# Altium footprint library Connector_JST.PcbLib: 558 footprints (part 30 of 35)
Each footprint in its own frame and in the unit in brackets; x right, y up, seen from the top. Pads: shape width x height; smd on the part's side, far side on the other; paste and mask are expansions set on the pad; w line width, h text height; cw(c..) or ccw(c..) is an arc to the next point about the centre after c.
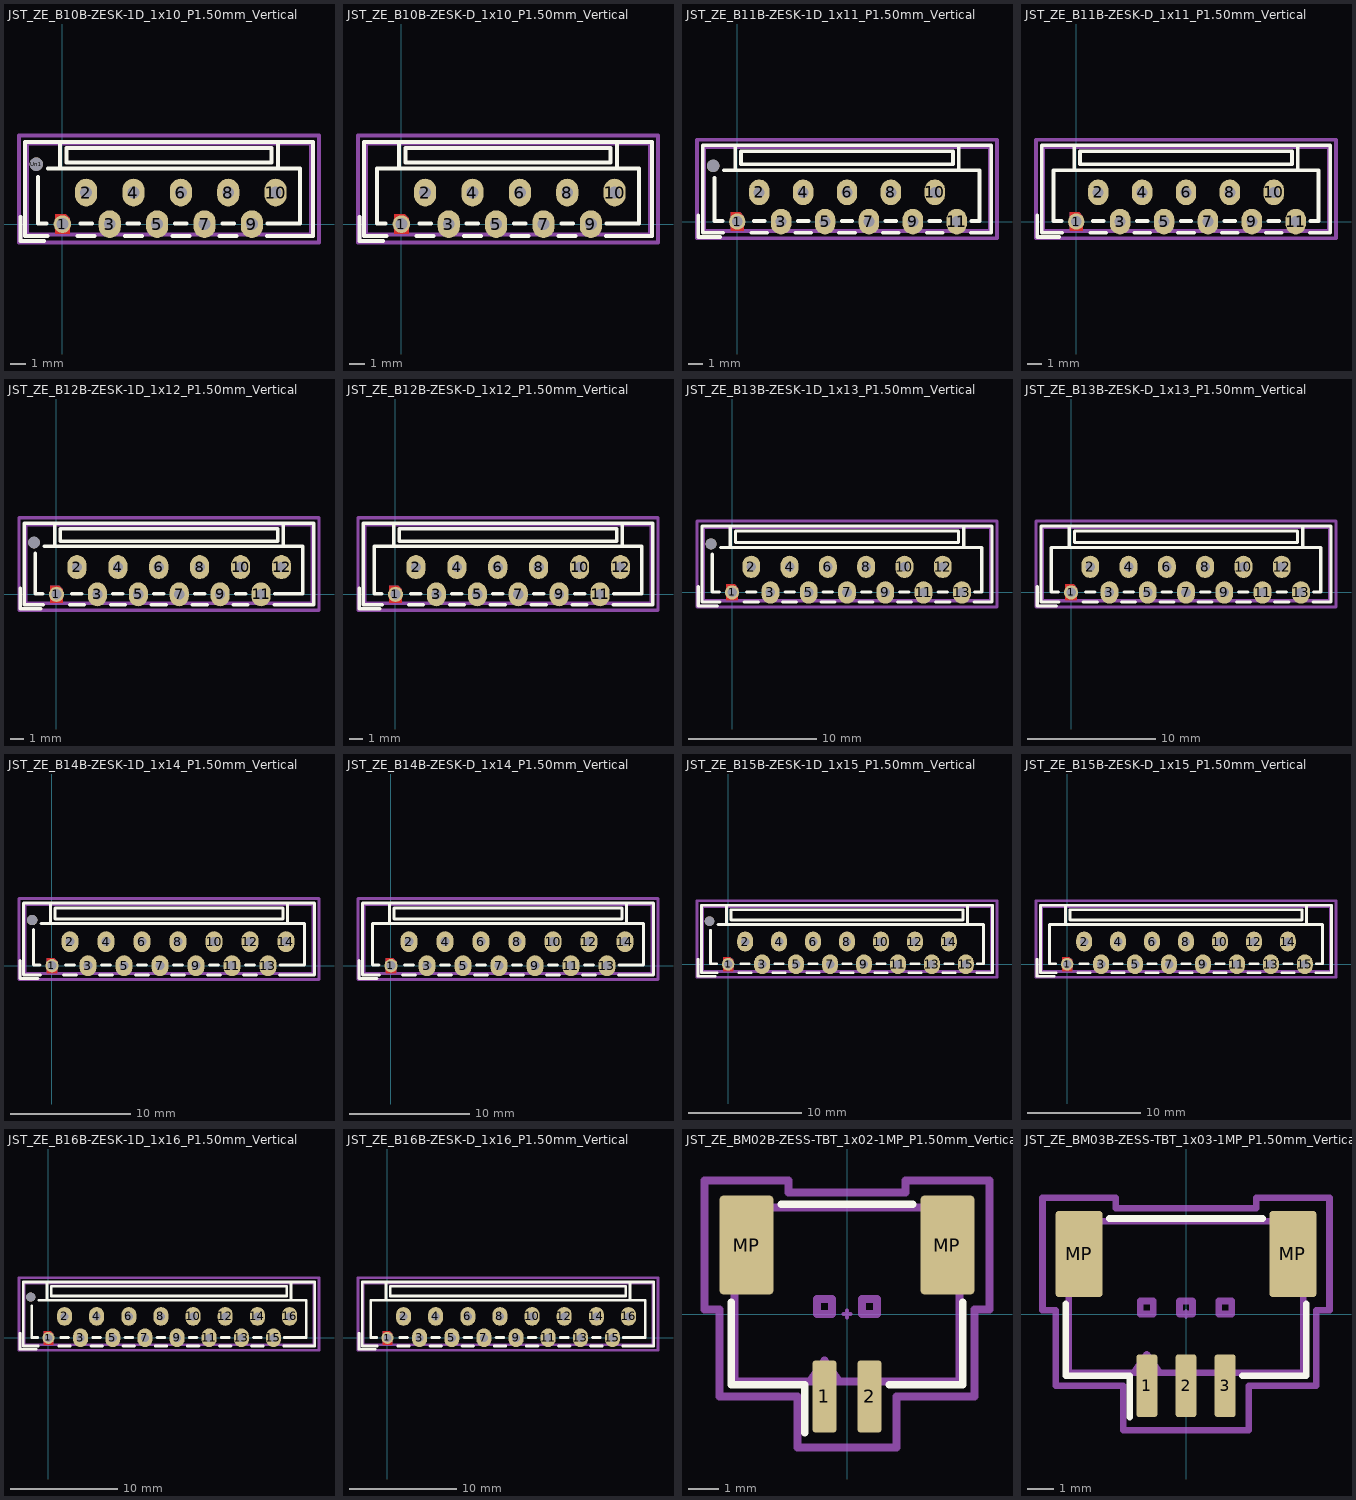
[diagram p29: the footprints below, top view; thin cyan lines are the x and y axes]

## JST_ZE_B10B-ZESK-1D_1x10_P1.50mm_Vertical [mm] "JST_ZE_B10B-ZESK-1D_1x10_P1.50mm_Vertical"
pads (11):
  round 1.117 hole 0.75: 1(0,0)
  rrect100% 1.4x1.75 hole 0.75: 2(1.5,2) 3(3,0) 4(4.5,2) 5(6,0) 6(7.5,2) 7(9,0) 8(10.5,2) 9(12,0) 10(13.5,2)
  round 0.85 hole 0.85: Un1(-1.65,3.8)
F.Cu:
  region: 0.45,0.371 0.45,-0.625 -0.45,-0.625 -0.45,0.625 0.196,0.625
B.Cu:
  region: 0.45,0.371 0.45,-0.625 -0.45,-0.625 -0.45,0.625 0.196,0.625
F.SilkS:
  lines w0.254: -2.66,0.44 -2.66,-1.06 -1.16,-1.06 ; -1.56,3 -1.56,0.04 -1,0.04 ; -0.96,-0.76 -2.36,-0.76 -2.36,5.21 15.86,5.21 15.86,-0.76 12.96,-0.76 ; -0.9,3.51 -0.14,3.51 ; 0.96,-0.76 2.04,-0.76 ; 1.135,0.04 1.865,0.04 ; 3.96,-0.76 5.04,-0.76 ; 4.135,0.04 4.865,0.04 ; 6.96,-0.76 8.04,-0.76 ; 7.135,0.04 7.865,0.04 ; 9.96,-0.76 11.04,-0.76 ; 10.135,0.04 10.865,0.04 ; 13,0.04 15.06,0.04 15.06,3.51 13.64,3.51 ; -0.14,3.51 13.64,3.51 ; -0.14,3.51 -0.14,5.21 13.64,5.21 13.64,3.51 ; 0.26,3.91 13.24,3.91 13.24,4.81 0.26,4.81 0.26,3.91
F.Mask:
  region: 0.45,0.371 0.45,-0.625 -0.45,-0.625 -0.45,0.625 0.196,0.625
B.Mask:
  region: 0.45,0.371 0.45,-0.625 -0.45,-0.625 -0.45,0.625 0.196,0.625
Top Component Center:
  lines w0.127: -0.127,0 0.127,0 ; 0,-0.127 0,0.127
Top Assembly:
  lines w0.254: -2.66,0.44 -2.66,-1.06 -1.16,-1.06 ; -2.25,-0.65 15.75,-0.65 15.75,5.1 -2.25,5.1 -2.25,-0.65
Top Courtyard:
  lines w0.254: -2.75,-1.15 16.25,-1.15 16.25,5.6 -2.75,5.6 -2.75,-1.15
Top Designator:
  text ".Designator" at 3.301,3.974 h1.52

## JST_ZE_B10B-ZESK-D_1x10_P1.50mm_Vertical [mm] "JST_ZE_B10B-ZESK-D_1x10_P1.50mm_Vertical"
pads (10):
  round 1.117 hole 0.75: 1(0,0)
  rrect100% 1.4x1.75 hole 0.75: 2(1.5,2) 3(3,0) 4(4.5,2) 5(6,0) 6(7.5,2) 7(9,0) 8(10.5,2) 9(12,0) 10(13.5,2)
F.Cu:
  region: 0.45,0.371 0.45,-0.625 -0.45,-0.625 -0.45,0.625 0.196,0.625
B.Cu:
  region: 0.45,0.371 0.45,-0.625 -0.45,-0.625 -0.45,0.625 0.196,0.625
F.SilkS:
  lines w0.254: -2.66,0.44 -2.66,-1.06 -1.16,-1.06 ; -1,0.04 -1.56,0.04 -1.56,3.51 -0.14,3.51 ; -0.96,-0.76 -2.36,-0.76 -2.36,5.21 15.86,5.21 15.86,-0.76 12.96,-0.76 ; 0.96,-0.76 2.04,-0.76 ; 1.135,0.04 1.865,0.04 ; 3.96,-0.76 5.04,-0.76 ; 4.135,0.04 4.865,0.04 ; 6.96,-0.76 8.04,-0.76 ; 7.135,0.04 7.865,0.04 ; 9.96,-0.76 11.04,-0.76 ; 10.135,0.04 10.865,0.04 ; 13,0.04 15.06,0.04 15.06,3.51 13.64,3.51 ; -0.14,3.51 13.64,3.51 ; -0.14,3.51 -0.14,5.21 13.64,5.21 13.64,3.51 ; 0.26,3.91 13.24,3.91 13.24,4.81 0.26,4.81 0.26,3.91
F.Mask:
  region: 0.45,0.371 0.45,-0.625 -0.45,-0.625 -0.45,0.625 0.196,0.625
B.Mask:
  region: 0.45,0.371 0.45,-0.625 -0.45,-0.625 -0.45,0.625 0.196,0.625
Top Component Center:
  lines w0.127: -0.127,0 0.127,0 ; 0,-0.127 0,0.127
Top Assembly:
  lines w0.254: -2.66,0.44 -2.66,-1.06 -1.16,-1.06 ; -2.25,-0.65 15.75,-0.65 15.75,5.1 -2.25,5.1 -2.25,-0.65
Top Courtyard:
  lines w0.254: -2.75,-1.15 16.25,-1.15 16.25,5.6 -2.75,5.6 -2.75,-1.15
Top Designator:
  text ".Designator" at 2.285,3.974 h1.52

## JST_ZE_B11B-ZESK-1D_1x11_P1.50mm_Vertical [mm] "JST_ZE_B11B-ZESK-1D_1x11_P1.50mm_Vertical"
pads (12):
  round 1.117 hole 0.75: 1(0,0)
  rrect100% 1.4x1.75 hole 0.75: 2(1.5,2) 3(3,0) 4(4.5,2) 5(6,0) 6(7.5,2) 7(9,0) 8(10.5,2) 9(12,0) 10(13.5,2) 11(15,0)
  round 0.85 hole 0.85: Un1(-1.65,3.8)
F.Cu:
  region: 0.45,0.371 0.45,-0.625 -0.45,-0.625 -0.45,0.625 0.196,0.625
B.Cu:
  region: 0.45,0.371 0.45,-0.625 -0.45,-0.625 -0.45,0.625 0.196,0.625
F.SilkS:
  lines w0.254: -2.66,0.44 -2.66,-1.06 -1.16,-1.06 ; -1.56,3 -1.56,0.04 -1,0.04 ; -0.96,-0.76 -2.36,-0.76 -2.36,5.21 17.36,5.21 17.36,-0.76 15.96,-0.76 ; -0.9,3.51 -0.14,3.51 ; 0.96,-0.76 2.04,-0.76 ; 1.135,0.04 1.865,0.04 ; 3.96,-0.76 5.04,-0.76 ; 4.135,0.04 4.865,0.04 ; 6.96,-0.76 8.04,-0.76 ; 7.135,0.04 7.865,0.04 ; 9.96,-0.76 11.04,-0.76 ; 10.135,0.04 10.865,0.04 ; 12.96,-0.76 14.04,-0.76 ; 13.135,0.04 13.865,0.04 ; 16,0.04 16.56,0.04 16.56,3.51 15.14,3.51 ; -0.14,3.51 -0.14,5.21 15.14,5.21 15.14,3.51 ; -0.14,3.51 15.14,3.51 ; 0.26,3.91 0.26,4.81 14.74,4.81 14.74,3.91 0.26,3.91
F.Mask:
  region: 0.45,0.371 0.45,-0.625 -0.45,-0.625 -0.45,0.625 0.196,0.625
B.Mask:
  region: 0.45,0.371 0.45,-0.625 -0.45,-0.625 -0.45,0.625 0.196,0.625
Top Component Center:
  lines w0.127: -0.127,0 0.127,0 ; 0,-0.127 0,0.127
Top Assembly:
  lines w0.254: -2.66,0.44 -2.66,-1.06 -1.16,-1.06 ; -2.25,-0.65 -2.25,5.1 17.25,5.1 17.25,-0.65 -2.25,-0.65
Top Courtyard:
  lines w0.254: -2.75,-1.15 -2.75,5.6 17.75,5.6 17.75,-1.15 -2.75,-1.15
Top Designator:
  text ".Designator" at 3.809,3.974 h1.52

## JST_ZE_B11B-ZESK-D_1x11_P1.50mm_Vertical [mm]
pads (11):
  round 1.117 hole 0.75: 1(0,0)
  rrect100% 1.4x1.75 hole 0.75: 2(1.5,2) 3(3,0) 4(4.5,2) 5(6,0) 6(7.5,2) 7(9,0) 8(10.5,2) 9(12,0) 10(13.5,2) 11(15,0)
F.Cu:
  region: 0.45,0.371 0.45,-0.625 -0.45,-0.625 -0.45,0.625 0.196,0.625
B.Cu:
  region: 0.45,0.371 0.45,-0.625 -0.45,-0.625 -0.45,0.625 0.196,0.625
F.SilkS:
  lines w0.254: -2.66,0.44 -2.66,-1.06 -1.16,-1.06 ; -1,0.04 -1.56,0.04 -1.56,3.51 -0.14,3.51 ; -0.96,-0.76 -2.36,-0.76 -2.36,5.21 17.36,5.21 17.36,-0.76 15.96,-0.76 ; 0.96,-0.76 2.04,-0.76 ; 1.135,0.04 1.865,0.04 ; 3.96,-0.76 5.04,-0.76 ; 4.135,0.04 4.865,0.04 ; 6.96,-0.76 8.04,-0.76 ; 7.135,0.04 7.865,0.04 ; 9.96,-0.76 11.04,-0.76 ; 10.135,0.04 10.865,0.04 ; 12.96,-0.76 14.04,-0.76 ; 13.135,0.04 13.865,0.04 ; 16,0.04 16.56,0.04 16.56,3.51 15.14,3.51 ; -0.14,3.51 -0.14,5.21 15.14,5.21 15.14,3.51 ; -0.14,3.51 15.14,3.51 ; 0.26,3.91 0.26,4.81 14.74,4.81 14.74,3.91 0.26,3.91
F.Mask:
  region: 0.45,0.371 0.45,-0.625 -0.45,-0.625 -0.45,0.625 0.196,0.625
B.Mask:
  region: 0.45,0.371 0.45,-0.625 -0.45,-0.625 -0.45,0.625 0.196,0.625
Top Component Center:
  lines w0.127: -0.127,0 0.127,0 ; 0,-0.127 0,0.127
Top Assembly:
  lines w0.254: -2.66,0.44 -2.66,-1.06 -1.16,-1.06 ; -2.25,-0.65 -2.25,5.1 17.25,5.1 17.25,-0.65 -2.25,-0.65
Top Courtyard:
  lines w0.254: -2.75,-1.15 -2.75,5.6 17.75,5.6 17.75,-1.15 -2.75,-1.15
Top Designator:
  text ".Designator" at 4.063,3.974 h1.52

## JST_ZE_B12B-ZESK-1D_1x12_P1.50mm_Vertical [mm] "JST_ZE_B12B-ZESK-1D_1x12_P1.50mm_Vertical"
pads (13):
  round 1.117 hole 0.75: 1(0,0)
  rrect100% 1.4x1.75 hole 0.75: 2(1.5,2) 3(3,0) 4(4.5,2) 5(6,0) 6(7.5,2) 7(9,0) 8(10.5,2) 9(12,0) 10(13.5,2) 11(15,0) 12(16.5,2)
  round 0.85 hole 0.85: Un1(-1.65,3.8)
F.Cu:
  region: 0.45,0.371 0.45,-0.625 -0.45,-0.625 -0.45,0.625 0.196,0.625
B.Cu:
  region: 0.45,0.371 0.45,-0.625 -0.45,-0.625 -0.45,0.625 0.196,0.625
F.SilkS:
  lines w0.254: -2.66,0.44 -2.66,-1.06 -1.16,-1.06 ; -1.56,3 -1.56,0.04 -1,0.04 ; -0.96,-0.76 -2.36,-0.76 -2.36,5.21 18.86,5.21 18.86,-0.76 15.96,-0.76 ; -0.9,3.51 -0.14,3.51 ; 0.96,-0.76 2.04,-0.76 ; 1.135,0.04 1.865,0.04 ; 3.96,-0.76 5.04,-0.76 ; 4.135,0.04 4.865,0.04 ; 6.96,-0.76 8.04,-0.76 ; 7.135,0.04 7.865,0.04 ; 9.96,-0.76 11.04,-0.76 ; 10.135,0.04 10.865,0.04 ; 12.96,-0.76 14.04,-0.76 ; 13.135,0.04 13.865,0.04 ; 16,0.04 18.06,0.04 18.06,3.51 16.64,3.51 ; -0.14,3.51 16.64,3.51 ; -0.14,3.51 -0.14,5.21 16.64,5.21 16.64,3.51 ; 0.26,3.91 16.24,3.91 16.24,4.81 0.26,4.81 0.26,3.91
F.Mask:
  region: 0.45,0.371 0.45,-0.625 -0.45,-0.625 -0.45,0.625 0.196,0.625
B.Mask:
  region: 0.45,0.371 0.45,-0.625 -0.45,-0.625 -0.45,0.625 0.196,0.625
Top Component Center:
  lines w0.127: -0.127,0 0.127,0 ; 0,-0.127 0,0.127
Top Assembly:
  lines w0.254: -2.66,0.44 -2.66,-1.06 -1.16,-1.06 ; -2.25,-0.65 18.75,-0.65 18.75,5.1 -2.25,5.1 -2.25,-0.65
Top Courtyard:
  lines w0.254: -2.75,-1.15 19.25,-1.15 19.25,5.6 -2.75,5.6 -2.75,-1.15
Top Designator:
  text ".Designator" at 4.698,3.974 h1.52

## JST_ZE_B12B-ZESK-D_1x12_P1.50mm_Vertical [mm] "JST_ZE_B12B-ZESK-D_1x12_P1.50mm_Vertical"
pads (12):
  round 1.117 hole 0.75: 1(0,0)
  rrect100% 1.4x1.75 hole 0.75: 2(1.5,2) 3(3,0) 4(4.5,2) 5(6,0) 6(7.5,2) 7(9,0) 8(10.5,2) 9(12,0) 10(13.5,2) 11(15,0) 12(16.5,2)
F.Cu:
  region: 0.45,0.371 0.45,-0.625 -0.45,-0.625 -0.45,0.625 0.196,0.625
B.Cu:
  region: 0.45,0.371 0.45,-0.625 -0.45,-0.625 -0.45,0.625 0.196,0.625
F.SilkS:
  lines w0.254: -2.66,0.44 -2.66,-1.06 -1.16,-1.06 ; -1,0.04 -1.56,0.04 -1.56,3.51 -0.14,3.51 ; -0.96,-0.76 -2.36,-0.76 -2.36,5.21 18.86,5.21 18.86,-0.76 15.96,-0.76 ; 0.96,-0.76 2.04,-0.76 ; 1.135,0.04 1.865,0.04 ; 3.96,-0.76 5.04,-0.76 ; 4.135,0.04 4.865,0.04 ; 6.96,-0.76 8.04,-0.76 ; 7.135,0.04 7.865,0.04 ; 9.96,-0.76 11.04,-0.76 ; 10.135,0.04 10.865,0.04 ; 12.96,-0.76 14.04,-0.76 ; 13.135,0.04 13.865,0.04 ; 16,0.04 18.06,0.04 18.06,3.51 16.64,3.51 ; -0.14,3.51 16.64,3.51 ; -0.14,3.51 -0.14,5.21 16.64,5.21 16.64,3.51 ; 0.26,3.91 16.24,3.91 16.24,4.81 0.26,4.81 0.26,3.91
F.Mask:
  region: 0.45,0.371 0.45,-0.625 -0.45,-0.625 -0.45,0.625 0.196,0.625
B.Mask:
  region: 0.45,0.371 0.45,-0.625 -0.45,-0.625 -0.45,0.625 0.196,0.625
Top Component Center:
  lines w0.127: -0.127,0 0.127,0 ; 0,-0.127 0,0.127
Top Assembly:
  lines w0.254: -2.66,0.44 -2.66,-1.06 -1.16,-1.06 ; -2.25,-0.65 18.75,-0.65 18.75,5.1 -2.25,5.1 -2.25,-0.65
Top Courtyard:
  lines w0.254: -2.75,-1.15 19.25,-1.15 19.25,5.6 -2.75,5.6 -2.75,-1.15
Top Designator:
  text ".Designator" at 4.825,3.974 h1.52

## JST_ZE_B13B-ZESK-1D_1x13_P1.50mm_Vertical [mm] "JST_ZE_B13B-ZESK-1D_1x13_P1.50mm_Vertical"
pads (14):
  round 1.117 hole 0.75: 1(0,0)
  rrect100% 1.4x1.75 hole 0.75: 2(1.5,2) 3(3,0) 4(4.5,2) 5(6,0) 6(7.5,2) 7(9,0) 8(10.5,2) 9(12,0) 10(13.5,2) 11(15,0) 12(16.5,2) 13(18,0)
  round 0.85 hole 0.85: Un1(-1.65,3.8)
F.Cu:
  region: 0.45,0.371 0.45,-0.625 -0.45,-0.625 -0.45,0.625 0.196,0.625
B.Cu:
  region: 0.45,0.371 0.45,-0.625 -0.45,-0.625 -0.45,0.625 0.196,0.625
F.SilkS:
  lines w0.254: -2.66,0.44 -2.66,-1.06 -1.16,-1.06 ; -1.56,3 -1.56,0.04 -1,0.04 ; -0.96,-0.76 -2.36,-0.76 -2.36,5.21 20.36,5.21 20.36,-0.76 18.96,-0.76 ; -0.9,3.51 -0.14,3.51 ; 0.96,-0.76 2.04,-0.76 ; 1.135,0.04 1.865,0.04 ; 3.96,-0.76 5.04,-0.76 ; 4.135,0.04 4.865,0.04 ; 6.96,-0.76 8.04,-0.76 ; 7.135,0.04 7.865,0.04 ; 9.96,-0.76 11.04,-0.76 ; 10.135,0.04 10.865,0.04 ; 12.96,-0.76 14.04,-0.76 ; 13.135,0.04 13.865,0.04 ; 15.96,-0.76 17.04,-0.76 ; 16.135,0.04 16.865,0.04 ; 19,0.04 19.56,0.04 19.56,3.51 18.14,3.51 ; -0.14,3.51 18.14,3.51 ; -0.14,3.51 -0.14,5.21 18.14,5.21 18.14,3.51 ; 0.26,3.91 17.74,3.91 17.74,4.81 0.26,4.81 0.26,3.91
F.Mask:
  region: 0.45,0.371 0.45,-0.625 -0.45,-0.625 -0.45,0.625 0.196,0.625
B.Mask:
  region: 0.45,0.371 0.45,-0.625 -0.45,-0.625 -0.45,0.625 0.196,0.625
Top Component Center:
  lines w0.127: -0.127,0 0.127,0 ; 0,-0.127 0,0.127
Top Assembly:
  lines w0.254: -2.66,0.44 -2.66,-1.06 -1.16,-1.06 ; -2.25,-0.65 20.25,-0.65 20.25,5.1 -2.25,5.1 -2.25,-0.65
Top Courtyard:
  lines w0.254: -2.75,-1.15 20.75,-1.15 20.75,5.6 -2.75,5.6 -2.75,-1.15
Top Designator:
  text ".Designator" at 5.46,3.974 h1.52

## JST_ZE_B13B-ZESK-D_1x13_P1.50mm_Vertical [mm] "JST_ZE_B13B-ZESK-D_1x13_P1.50mm_Vertical"
pads (13):
  round 1.117 hole 0.75: 1(0,0)
  rrect100% 1.4x1.75 hole 0.75: 2(1.5,2) 3(3,0) 4(4.5,2) 5(6,0) 6(7.5,2) 7(9,0) 8(10.5,2) 9(12,0) 10(13.5,2) 11(15,0) 12(16.5,2) 13(18,0)
F.Cu:
  region: 0.45,0.371 0.45,-0.625 -0.45,-0.625 -0.45,0.625 0.196,0.625
B.Cu:
  region: 0.45,0.371 0.45,-0.625 -0.45,-0.625 -0.45,0.625 0.196,0.625
F.SilkS:
  lines w0.254: -2.66,0.44 -2.66,-1.06 -1.16,-1.06 ; -1,0.04 -1.56,0.04 -1.56,3.51 -0.14,3.51 ; -0.96,-0.76 -2.36,-0.76 -2.36,5.21 20.36,5.21 20.36,-0.76 18.96,-0.76 ; 0.96,-0.76 2.04,-0.76 ; 1.135,0.04 1.865,0.04 ; 3.96,-0.76 5.04,-0.76 ; 4.135,0.04 4.865,0.04 ; 6.96,-0.76 8.04,-0.76 ; 7.135,0.04 7.865,0.04 ; 9.96,-0.76 11.04,-0.76 ; 10.135,0.04 10.865,0.04 ; 12.96,-0.76 14.04,-0.76 ; 13.135,0.04 13.865,0.04 ; 15.96,-0.76 17.04,-0.76 ; 16.135,0.04 16.865,0.04 ; 19,0.04 19.56,0.04 19.56,3.51 18.14,3.51 ; -0.14,3.51 18.14,3.51 ; -0.14,3.51 -0.14,5.21 18.14,5.21 18.14,3.51 ; 0.26,3.91 17.74,3.91 17.74,4.81 0.26,4.81 0.26,3.91
F.Mask:
  region: 0.45,0.371 0.45,-0.625 -0.45,-0.625 -0.45,0.625 0.196,0.625
B.Mask:
  region: 0.45,0.371 0.45,-0.625 -0.45,-0.625 -0.45,0.625 0.196,0.625
Top Component Center:
  lines w0.127: -0.127,0 0.127,0 ; 0,-0.127 0,0.127
Top Assembly:
  lines w0.254: -2.66,0.44 -2.66,-1.06 -1.16,-1.06 ; -2.25,-0.65 20.25,-0.65 20.25,5.1 -2.25,5.1 -2.25,-0.65
Top Courtyard:
  lines w0.254: -2.75,-1.15 20.75,-1.15 20.75,5.6 -2.75,5.6 -2.75,-1.15
Top Designator:
  text ".Designator" at 5.46,3.974 h1.52

## JST_ZE_B14B-ZESK-1D_1x14_P1.50mm_Vertical [mm] "JST_ZE_B14B-ZESK-1D_1x14_P1.50mm_Vertical"
pads (15):
  round 1.117 hole 0.75: 1(0,0)
  rrect100% 1.4x1.75 hole 0.75: 2(1.5,2) 3(3,0) 4(4.5,2) 5(6,0) 6(7.5,2) 7(9,0) 8(10.5,2) 9(12,0) 10(13.5,2) 11(15,0) 12(16.5,2) 13(18,0) 14(19.5,2)
  round 0.85 hole 0.85: Un1(-1.65,3.8)
F.Cu:
  region: 0.45,0.371 0.45,-0.625 -0.45,-0.625 -0.45,0.625 0.196,0.625
B.Cu:
  region: 0.45,0.371 0.45,-0.625 -0.45,-0.625 -0.45,0.625 0.196,0.625
F.SilkS:
  lines w0.254: -2.66,0.44 -2.66,-1.06 -1.16,-1.06 ; -1.56,3 -1.56,0.04 -1,0.04 ; -0.96,-0.76 -2.36,-0.76 -2.36,5.21 21.86,5.21 21.86,-0.76 18.96,-0.76 ; -0.9,3.51 -0.14,3.51 ; 0.96,-0.76 2.04,-0.76 ; 1.135,0.04 1.865,0.04 ; 3.96,-0.76 5.04,-0.76 ; 4.135,0.04 4.865,0.04 ; 6.96,-0.76 8.04,-0.76 ; 7.135,0.04 7.865,0.04 ; 9.96,-0.76 11.04,-0.76 ; 10.135,0.04 10.865,0.04 ; 12.96,-0.76 14.04,-0.76 ; 13.135,0.04 13.865,0.04 ; 15.96,-0.76 17.04,-0.76 ; 16.135,0.04 16.865,0.04 ; 19,0.04 21.06,0.04 21.06,3.51 19.64,3.51 ; -0.14,3.51 -0.14,5.21 19.64,5.21 19.64,3.51 ; -0.14,3.51 19.64,3.51 ; 0.26,3.91 0.26,4.81 19.24,4.81 19.24,3.91 0.26,3.91
F.Mask:
  region: 0.45,0.371 0.45,-0.625 -0.45,-0.625 -0.45,0.625 0.196,0.625
B.Mask:
  region: 0.45,0.371 0.45,-0.625 -0.45,-0.625 -0.45,0.625 0.196,0.625
Top Component Center:
  lines w0.127: -0.127,0 0.127,0 ; 0,-0.127 0,0.127
Top Assembly:
  lines w0.254: -2.66,0.44 -2.66,-1.06 -1.16,-1.06 ; -2.25,-0.65 -2.25,5.1 21.75,5.1 21.75,-0.65 -2.25,-0.65
Top Courtyard:
  lines w0.254: -2.75,-1.15 -2.75,5.6 22.25,5.6 22.25,-1.15 -2.75,-1.15
Top Designator:
  text ".Designator" at 6.222,3.974 h1.52

## JST_ZE_B14B-ZESK-D_1x14_P1.50mm_Vertical [mm] "JST_ZE_B14B-ZESK-D_1x14_P1.50mm_Vertical"
pads (14):
  round 1.117 hole 0.75: 1(0,0)
  rrect100% 1.4x1.75 hole 0.75: 2(1.5,2) 3(3,0) 4(4.5,2) 5(6,0) 6(7.5,2) 7(9,0) 8(10.5,2) 9(12,0) 10(13.5,2) 11(15,0) 12(16.5,2) 13(18,0) 14(19.5,2)
F.Cu:
  region: 0.45,0.371 0.45,-0.625 -0.45,-0.625 -0.45,0.625 0.196,0.625
B.Cu:
  region: 0.45,0.371 0.45,-0.625 -0.45,-0.625 -0.45,0.625 0.196,0.625
F.SilkS:
  lines w0.254: -2.66,0.44 -2.66,-1.06 -1.16,-1.06 ; -1,0.04 -1.56,0.04 -1.56,3.51 -0.14,3.51 ; -0.96,-0.76 -2.36,-0.76 -2.36,5.21 21.86,5.21 21.86,-0.76 18.96,-0.76 ; 0.96,-0.76 2.04,-0.76 ; 1.135,0.04 1.865,0.04 ; 3.96,-0.76 5.04,-0.76 ; 4.135,0.04 4.865,0.04 ; 6.96,-0.76 8.04,-0.76 ; 7.135,0.04 7.865,0.04 ; 9.96,-0.76 11.04,-0.76 ; 10.135,0.04 10.865,0.04 ; 12.96,-0.76 14.04,-0.76 ; 13.135,0.04 13.865,0.04 ; 15.96,-0.76 17.04,-0.76 ; 16.135,0.04 16.865,0.04 ; 19,0.04 21.06,0.04 21.06,3.51 19.64,3.51 ; -0.14,3.51 -0.14,5.21 19.64,5.21 19.64,3.51 ; -0.14,3.51 19.64,3.51 ; 0.26,3.91 0.26,4.81 19.24,4.81 19.24,3.91 0.26,3.91
F.Mask:
  region: 0.45,0.371 0.45,-0.625 -0.45,-0.625 -0.45,0.625 0.196,0.625
B.Mask:
  region: 0.45,0.371 0.45,-0.625 -0.45,-0.625 -0.45,0.625 0.196,0.625
Top Component Center:
  lines w0.127: -0.127,0 0.127,0 ; 0,-0.127 0,0.127
Top Assembly:
  lines w0.254: -2.66,0.44 -2.66,-1.06 -1.16,-1.06 ; -2.25,-0.65 -2.25,5.1 21.75,5.1 21.75,-0.65 -2.25,-0.65
Top Courtyard:
  lines w0.254: -2.75,-1.15 -2.75,5.6 22.25,5.6 22.25,-1.15 -2.75,-1.15
Top Designator:
  text ".Designator" at 5.46,3.974 h1.52

## JST_ZE_B15B-ZESK-1D_1x15_P1.50mm_Vertical [mm] "JST_ZE_B15B-ZESK-1D_1x15_P1.50mm_Vertical"
pads (16):
  round 1.117 hole 0.75: 1(0,0)
  rrect100% 1.4x1.75 hole 0.75: 2(1.5,2) 3(3,0) 4(4.5,2) 5(6,0) 6(7.5,2) 7(9,0) 8(10.5,2) 9(12,0) 10(13.5,2) 11(15,0) 12(16.5,2) 13(18,0) 14(19.5,2) 15(21,0)
  round 0.85 hole 0.85: Un1(-1.65,3.8)
F.Cu:
  region: 0.45,0.371 0.45,-0.625 -0.45,-0.625 -0.45,0.625 0.196,0.625
B.Cu:
  region: 0.45,0.371 0.45,-0.625 -0.45,-0.625 -0.45,0.625 0.196,0.625
F.SilkS:
  lines w0.254: -2.66,0.44 -2.66,-1.06 -1.16,-1.06 ; -1.56,3 -1.56,0.04 -1,0.04 ; -0.96,-0.76 -2.36,-0.76 -2.36,5.21 23.36,5.21 23.36,-0.76 21.96,-0.76 ; -0.9,3.51 -0.14,3.51 ; 0.96,-0.76 2.04,-0.76 ; 1.135,0.04 1.865,0.04 ; 3.96,-0.76 5.04,-0.76 ; 4.135,0.04 4.865,0.04 ; 6.96,-0.76 8.04,-0.76 ; 7.135,0.04 7.865,0.04 ; 9.96,-0.76 11.04,-0.76 ; 10.135,0.04 10.865,0.04 ; 12.96,-0.76 14.04,-0.76 ; 13.135,0.04 13.865,0.04 ; 15.96,-0.76 17.04,-0.76 ; 16.135,0.04 16.865,0.04 ; 18.96,-0.76 20.04,-0.76 ; 19.135,0.04 19.865,0.04 ; 22,0.04 22.56,0.04 22.56,3.51 21.14,3.51 ; -0.14,3.51 -0.14,5.21 21.14,5.21 21.14,3.51 ; -0.14,3.51 21.14,3.51 ; 0.26,3.91 0.26,4.81 20.74,4.81 20.74,3.91 0.26,3.91
F.Mask:
  region: 0.45,0.371 0.45,-0.625 -0.45,-0.625 -0.45,0.625 0.196,0.625
B.Mask:
  region: 0.45,0.371 0.45,-0.625 -0.45,-0.625 -0.45,0.625 0.196,0.625
Top Component Center:
  lines w0.127: -0.127,0 0.127,0 ; 0,-0.127 0,0.127
Top Assembly:
  lines w0.254: -2.66,0.44 -2.66,-1.06 -1.16,-1.06 ; -2.25,-0.65 -2.25,5.1 23.25,5.1 23.25,-0.65 -2.25,-0.65
Top Courtyard:
  lines w0.254: -2.75,-1.15 -2.75,5.6 23.75,5.6 23.75,-1.15 -2.75,-1.15
Top Designator:
  text ".Designator" at 7.365,3.974 h1.52

## JST_ZE_B15B-ZESK-D_1x15_P1.50mm_Vertical [mm] "JST_ZE_B15B-ZESK-D_1x15_P1.50mm_Vertical"
pads (15):
  round 1.117 hole 0.75: 1(0,0)
  rrect100% 1.4x1.75 hole 0.75: 2(1.5,2) 3(3,0) 4(4.5,2) 5(6,0) 6(7.5,2) 7(9,0) 8(10.5,2) 9(12,0) 10(13.5,2) 11(15,0) 12(16.5,2) 13(18,0) 14(19.5,2) 15(21,0)
F.Cu:
  region: 0.45,0.371 0.45,-0.625 -0.45,-0.625 -0.45,0.625 0.196,0.625
B.Cu:
  region: 0.45,0.371 0.45,-0.625 -0.45,-0.625 -0.45,0.625 0.196,0.625
F.SilkS:
  lines w0.254: -2.66,0.44 -2.66,-1.06 -1.16,-1.06 ; -1,0.04 -1.56,0.04 -1.56,3.51 -0.14,3.51 ; -0.96,-0.76 -2.36,-0.76 -2.36,5.21 23.36,5.21 23.36,-0.76 21.96,-0.76 ; 0.96,-0.76 2.04,-0.76 ; 1.135,0.04 1.865,0.04 ; 3.96,-0.76 5.04,-0.76 ; 4.135,0.04 4.865,0.04 ; 6.96,-0.76 8.04,-0.76 ; 7.135,0.04 7.865,0.04 ; 9.96,-0.76 11.04,-0.76 ; 10.135,0.04 10.865,0.04 ; 12.96,-0.76 14.04,-0.76 ; 13.135,0.04 13.865,0.04 ; 15.96,-0.76 17.04,-0.76 ; 16.135,0.04 16.865,0.04 ; 18.96,-0.76 20.04,-0.76 ; 19.135,0.04 19.865,0.04 ; 22,0.04 22.56,0.04 22.56,3.51 21.14,3.51 ; -0.14,3.51 -0.14,5.21 21.14,5.21 21.14,3.51 ; -0.14,3.51 21.14,3.51 ; 0.26,3.91 0.26,4.81 20.74,4.81 20.74,3.91 0.26,3.91
F.Mask:
  region: 0.45,0.371 0.45,-0.625 -0.45,-0.625 -0.45,0.625 0.196,0.625
B.Mask:
  region: 0.45,0.371 0.45,-0.625 -0.45,-0.625 -0.45,0.625 0.196,0.625
Top Component Center:
  lines w0.127: -0.127,0 0.127,0 ; 0,-0.127 0,0.127
Top Assembly:
  lines w0.254: -2.66,0.44 -2.66,-1.06 -1.16,-1.06 ; -2.25,-0.65 -2.25,5.1 23.25,5.1 23.25,-0.65 -2.25,-0.65
Top Courtyard:
  lines w0.254: -2.75,-1.15 -2.75,5.6 23.75,5.6 23.75,-1.15 -2.75,-1.15
Top Designator:
  text ".Designator" at 6.222,3.974 h1.52

## JST_ZE_B16B-ZESK-1D_1x16_P1.50mm_Vertical [mm] "JST_ZE_B16B-ZESK-1D_1x16_P1.50mm_Vertical"
pads (17):
  round 1.117 hole 0.75: 1(0,0)
  rrect100% 1.4x1.75 hole 0.75: 2(1.5,2) 3(3,0) 4(4.5,2) 5(6,0) 6(7.5,2) 7(9,0) 8(10.5,2) 9(12,0) 10(13.5,2) 11(15,0) 12(16.5,2) 13(18,0) 14(19.5,2) 15(21,0) 16(22.5,2)
  round 0.85 hole 0.85: Un1(-1.65,3.8)
F.Cu:
  region: 0.45,0.371 0.45,-0.625 -0.45,-0.625 -0.45,0.625 0.196,0.625
B.Cu:
  region: 0.45,0.371 0.45,-0.625 -0.45,-0.625 -0.45,0.625 0.196,0.625
F.SilkS:
  lines w0.254: -2.66,0.44 -2.66,-1.06 -1.16,-1.06 ; -1.56,3 -1.56,0.04 -1,0.04 ; -0.96,-0.76 -2.36,-0.76 -2.36,5.21 24.86,5.21 24.86,-0.76 21.96,-0.76 ; -0.9,3.51 -0.14,3.51 ; 0.96,-0.76 2.04,-0.76 ; 1.135,0.04 1.865,0.04 ; 3.96,-0.76 5.04,-0.76 ; 4.135,0.04 4.865,0.04 ; 6.96,-0.76 8.04,-0.76 ; 7.135,0.04 7.865,0.04 ; 9.96,-0.76 11.04,-0.76 ; 10.135,0.04 10.865,0.04 ; 12.96,-0.76 14.04,-0.76 ; 13.135,0.04 13.865,0.04 ; 15.96,-0.76 17.04,-0.76 ; 16.135,0.04 16.865,0.04 ; 18.96,-0.76 20.04,-0.76 ; 19.135,0.04 19.865,0.04 ; 22,0.04 24.06,0.04 24.06,3.51 22.64,3.51 ; -0.14,3.51 -0.14,5.21 22.64,5.21 22.64,3.51 ; -0.14,3.51 22.64,3.51 ; 0.26,3.91 0.26,4.81 22.24,4.81 22.24,3.91 0.26,3.91
F.Mask:
  region: 0.45,0.371 0.45,-0.625 -0.45,-0.625 -0.45,0.625 0.196,0.625
B.Mask:
  region: 0.45,0.371 0.45,-0.625 -0.45,-0.625 -0.45,0.625 0.196,0.625
Top Component Center:
  lines w0.127: -0.127,0 0.127,0 ; 0,-0.127 0,0.127
Top Assembly:
  lines w0.254: -2.66,0.44 -2.66,-1.06 -1.16,-1.06 ; -2.25,-0.65 -2.25,5.1 24.75,5.1 24.75,-0.65 -2.25,-0.65
Top Courtyard:
  lines w0.254: -2.75,-1.15 -2.75,5.6 25.25,5.6 25.25,-1.15 -2.75,-1.15
Top Designator:
  text ".Designator" at 7.873,3.847 h1.52

## JST_ZE_B16B-ZESK-D_1x16_P1.50mm_Vertical [mm] "JST_ZE_B16B-ZESK-D_1x16_P1.50mm_Vertical"
pads (16):
  round 1.117 hole 0.75: 1(0,0)
  rrect100% 1.4x1.75 hole 0.75: 2(1.5,2) 3(3,0) 4(4.5,2) 5(6,0) 6(7.5,2) 7(9,0) 8(10.5,2) 9(12,0) 10(13.5,2) 11(15,0) 12(16.5,2) 13(18,0) 14(19.5,2) 15(21,0) 16(22.5,2)
F.Cu:
  region: 0.45,0.371 0.45,-0.625 -0.45,-0.625 -0.45,0.625 0.196,0.625
B.Cu:
  region: 0.45,0.371 0.45,-0.625 -0.45,-0.625 -0.45,0.625 0.196,0.625
F.SilkS:
  lines w0.254: -2.66,0.44 -2.66,-1.06 -1.16,-1.06 ; -1,0.04 -1.56,0.04 -1.56,3.51 -0.14,3.51 ; -0.96,-0.76 -2.36,-0.76 -2.36,5.21 24.86,5.21 24.86,-0.76 21.96,-0.76 ; 0.96,-0.76 2.04,-0.76 ; 1.135,0.04 1.865,0.04 ; 3.96,-0.76 5.04,-0.76 ; 4.135,0.04 4.865,0.04 ; 6.96,-0.76 8.04,-0.76 ; 7.135,0.04 7.865,0.04 ; 9.96,-0.76 11.04,-0.76 ; 10.135,0.04 10.865,0.04 ; 12.96,-0.76 14.04,-0.76 ; 13.135,0.04 13.865,0.04 ; 15.96,-0.76 17.04,-0.76 ; 16.135,0.04 16.865,0.04 ; 18.96,-0.76 20.04,-0.76 ; 19.135,0.04 19.865,0.04 ; 22,0.04 24.06,0.04 24.06,3.51 22.64,3.51 ; -0.14,3.51 22.64,3.51 ; -0.14,3.51 -0.14,5.21 22.64,5.21 22.64,3.51 ; 0.26,3.91 22.24,3.91 22.24,4.81 0.26,4.81 0.26,3.91
F.Mask:
  region: 0.45,0.371 0.45,-0.625 -0.45,-0.625 -0.45,0.625 0.196,0.625
B.Mask:
  region: 0.45,0.371 0.45,-0.625 -0.45,-0.625 -0.45,0.625 0.196,0.625
Top Component Center:
  lines w0.127: -0.127,0 0.127,0 ; 0,-0.127 0,0.127
Top Assembly:
  lines w0.254: -2.66,0.44 -2.66,-1.06 -1.16,-1.06 ; -2.25,-0.65 24.75,-0.65 24.75,5.1 -2.25,5.1 -2.25,-0.65
Top Courtyard:
  lines w0.254: -2.75,-1.15 25.25,-1.15 25.25,5.6 -2.75,5.6 -2.75,-1.15
Top Designator:
  text ".Designator" at 7.873,3.974 h1.52

## JST_ZE_BM02B-ZESS-TBT_1x02-1MP_P1.50mm_Vertical [mm] "JST_ZE_BM02B-ZESS-TBT_1x02-1MP_P1.50mm_Vertical"
pads (4):
  rrect25% 0.8x2.4 smd: 1(-0.75,-2.75) 2(0.75,-2.75)
  rrect14% 1.8x3.3 smd: MP(-3.35,2.3) MP(3.35,2.3)
F.SilkS:
  lines w0.254: -3.86,0.39 -3.86,-2.36 -1.41,-2.36 -1.41,-3.95 ; -2.19,3.66 2.19,3.66 ; 1.41,-2.36 3.86,-2.36 3.86,0.39
Top Component Center:
  lines w0.127: -0.127,0 0.127,0 ; 0,-0.127 0,0.127
Top Assembly:
  lines w0.254: -1.25,-2.25 -0.75,-1.543 -0.25,-2.25 ; -3.75,-2.25 3.75,-2.25 3.75,3.55 -3.75,3.55 -3.75,-2.25 ; -1,0 -0.5,0 -0.5,0.5 -1,0.5 -1,0 ; 0.5,0 1,0 1,0.5 0.5,0.5 0.5,0
Top Courtyard:
  lines w0.254: -4.75,0.15 -4.25,0.15 -4.25,-2.75 -1.65,-2.75 -1.65,-4.45 1.65,-4.45 1.65,-2.75 4.25,-2.75 4.25,0.15 4.75,0.15 4.75,4.45 1.95,4.45 1.95,4.05 -1.95,4.05 -1.95,4.45 -4.75,4.45 -4.75,0.15
Top Designator:
  text ".Designator" at -3.43,-1.106 h1.52

## JST_ZE_BM03B-ZESS-TBT_1x03-1MP_P1.50mm_Vertical [mm] "JST_ZE_BM03B-ZESS-TBT_1x03-1MP_P1.50mm_Vertical"
pads (5):
  rrect25% 0.8x2.4 smd: 1(-1.5,-2.75) 2(0,-2.75) 3(1.5,-2.75)
  rrect14% 1.8x3.3 smd: MP(-4.1,2.3) MP(4.1,2.3)
F.SilkS:
  lines w0.254: -4.61,0.39 -4.61,-2.36 -2.16,-2.36 -2.16,-3.95 ; -2.94,3.66 2.94,3.66 ; 2.16,-2.36 4.61,-2.36 4.61,0.39
Top Component Center:
  lines w0.127: -0.127,0 0.127,0 ; 0,-0.127 0,0.127
Top Assembly:
  lines w0.254: -2,-2.25 -1.5,-1.543 -1,-2.25 ; -4.5,-2.25 -4.5,3.55 4.5,3.55 4.5,-2.25 -4.5,-2.25 ; -1.75,0 -1.75,0.5 -1.25,0.5 -1.25,0 -1.75,0 ; -0.25,0 -0.25,0.5 0.25,0.5 0.25,0 -0.25,0 ; 1.25,0 1.25,0.5 1.75,0.5 1.75,0 1.25,0
Top Courtyard:
  lines w0.254: -5.5,0.15 -5.5,4.45 -2.69,4.45 -2.69,4.05 2.69,4.05 2.69,4.45 5.5,4.45 5.5,0.15 5,0.15 5,-2.75 2.4,-2.75 2.4,-4.45 -2.4,-4.45 -2.4,-2.75 -5,-2.75 -5,0.15 -5.5,0.15
Top Designator:
  text ".Designator" at -3.43,1.688 h1.52